# Altium schematic symbol library CRE401.SchLib: 3 symbols
Pins are listed as number, name and electrical type; pins without a type are passive.

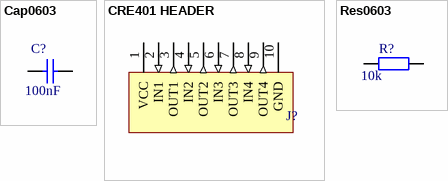
[diagram p0: symbols Cap0603 to Res0603]

## Cap0603
designator C?  value 100nF  (hidden comment: Cap0603)
Capacitor (SMD), 0603; PackageReference: CAPC1608N
footprint CAPC1608N (Chip Capacitor, Body 1.6x0.8mm, IPC Medium Density)
pins: 1, 2
1 alternate drawing of the same symbol

## CRE401 HEADER
designator J?
10p 0.1" header, male, right angle or vertical
footprint HDR1X9 (Connector; Header; 9 Position; right angle)
footprint HEADER10_SMD_THT
pins: 1 VCC (power), 2 IN1 (in), 3 OUT1 (out), 4 IN2 (in), 5 OUT2 (out), 6 IN3 (in), 7 OUT3 (out), 8 IN4 (in), 9 OUT4 (out), 10 GND (power)

## Res0603
designator R?  value 10k  (hidden comment: Res0603)
Resistor (SMD), 0603; PackageReference: RESC1608N
footprint RESC1608N (Chip Resistor, Body 1.6x0.8mm, IPC Medium Density)
pins: 1, 2